# Altium schematic symbol library EDISON_ARDUINO_HVM_8_26_OLD_Library.SchLib: 65 symbols
Pins are listed as number, name and electrical type; pins without a type are passive.

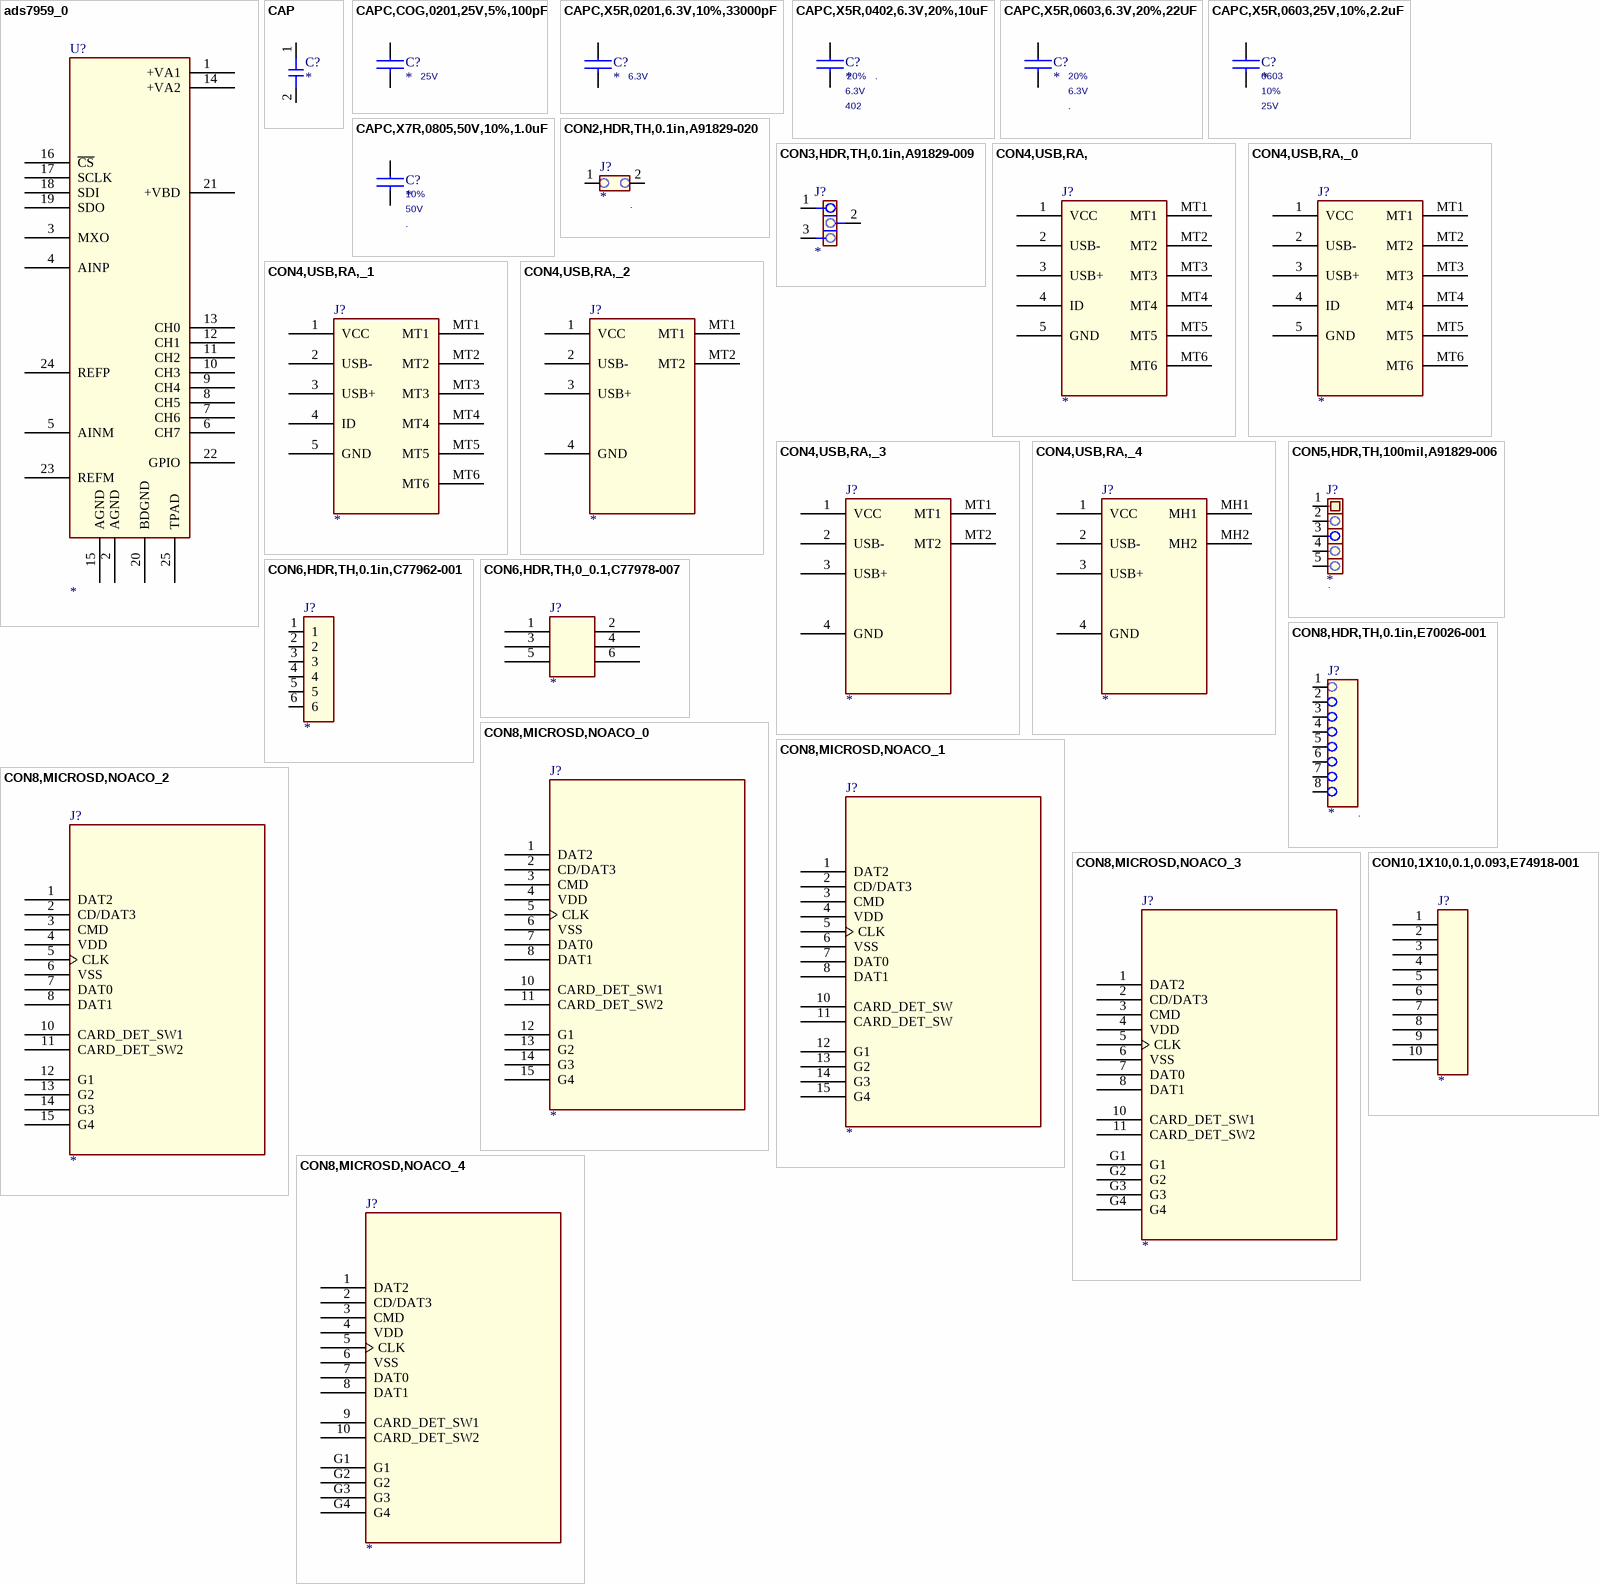
[diagram p0: symbols ads7959_0 to CON10,1X10,0.1,0.093,E74918-001]

## ads7959_0
designator U?
pins: 1 +VA1, 2 AGND (power), 3 MXO, 4 AINP, 5 AINM, 6 CH7, 7 CH6, 8 CH5, 9 CH4, 10 CH3, 11 CH2, 12 CH1, 13 CH0, 14 +VA2, 15 AGND (power), 16 ~{CS}, 17 SCLK, 18 SDI, 19 SDO, 20 BDGND (power), 21 +VBD, 22 GPIO, 23 REFM, 24 REFP, 25 TPAD

## CAP
designator C?
OriginalSymbolOrigin: (-50,50); VOLTAGE: ?; PERC: ?; PATH: ?; DESC: ?
pins: 1 END1, 2 END2

## CAPC,COG,0201,25V,5%,100pF
designator C?  RATING: 25V
PART_NUMBER: D70542-001; NO_STUFF: .; LEAD_FREE: YES; BOM: x; IPN: D70542-001; Device: D70542-001; FINANCE: x
footprint SMC0201
pins: 1, 2

## CAPC,X5R,0201,6.3V,10%,33000pF
designator C?  RATING: 6.3V
PART_NUMBER: C83410-017; LEAD_FREE: YES; BOM: x; NO_STUFF: .; IPN: C83410-017; Device: C83410-017; FINANCE: x
footprint SMC0201
pins: 1, 2

## CAPC,X5R,0402,6.3V,20%,10uF
designator C?  SIZE: 402  NO_STUFF: .  TOL: 20%  RATING: 6.3V
PART_NUMBER: G21049-001; LEAD_FREE: YES; BOM: x; Device: G21049-001; IPN: G21049-001; FINANCE: x
footprint SMC0402
pins: 1, 2

## CAPC,X5R,0603,6.3V,20%,22UF
designator C?  TOLERANCE: 20%  RATING: 6.3V  NO_STUFF: .
Device: 602433-081; LEAD_FREE: YES; BOM: x; IPN: 602433-081; PART_NUMBER: 602433-081; FINANCE: x
footprint SMC0603_hi_value
pins: 1, 2

## CAPC,X5R,0603,25V,10%,2.2uF
designator C?  TOL: 10%  SIZE: 0603  RATING: 25V
PART_NUMBER: 602433-091; FINANCE: x; LEAD_FREE: YES; NO_STUFF: .; BOM: x; DEVICE: 602433-091; IPN: 602433-091
footprint SMC0603_hi_value
pins: 1, 2

## CAPC,X7R,0805,50V,10%,1.0uF
designator C?  RATING: 50V  NO_STUFF: .  TOL: 10%
FINANCE: x; LEAD_FREE: YES; IPN: 644066-111; BOM: x; Device: 644066-111; PART_NUMBER: 644066-111
footprint SMC0805_1p35h
pins: 1, 2

## CON2,HDR,TH,0.1in,A91829-020
designator J?  NO_STUFF: .
PART_NUMBER: A91829-020; LEAD_FREE: YES; BOM: x; Device: A91829-020; IPN: A91829-020; FINANCE: x
footprint 102276-001
pins: 1, 2

## CON3,HDR,TH,0.1in,A91829-009
designator J?
IPN: A91829-009; LEAD_FREE: YES; BOM: x; NO_STUFF: .; Device: A91829-009; FINANCE: x
footprint 1x3hdr_p100in_th
pins: 1, 2, 3

## CON4,USB,RA,
designator J?
BOM: x; LEAD_FREE: YES; IPN: C88409-001; NO_STUFF: .; MFG: FOXCONN; MFG P/N: UB11123-5B1-4F; FINANCE: x; DEVICE: C88409-001; PART_NUMBER: C88409-001
footprint RCPT_USB_5P_DIP_SM
pins: 1 VCC, 2 USB-, 3 USB+, 4 ID, 5 GND, MT1, MT2, MT3, MT4, MT5, MT6

## CON4,USB,RA,_0
designator J?
PART_NUMBER: C88409-001; BOM: x; LEAD_FREE: YES; IPN: D23040-001; NO_STUFF: .; FINANCE: x; DEVICE: D23040-001
footprint RCPT_USB_5P_DIP_SM
pins: 1 VCC, 2 USB-, 3 USB+, 4 ID, 5 GND, MT1, MT2, MT3, MT4, MT5, MT6

## CON4,USB,RA,_1
designator J?
BOM: x; LEAD_FREE: YES; IPN: G58911-001; DEVICE: D23040-001; NO_STUFF: .; FINANCE: x; PART_NUMBER: G58911-001
footprint RCPT_USB_5P_DIP_SM
pins: 1 VCC, 2 USB-, 3 USB+, 4 ID, 5 GND, MT1, MT2, MT3, MT4, MT5, MT6

## CON4,USB,RA,_2
designator J?
PART_NUMBER: G58911-001; NO_STUFF: .; DEVICE: D23040-001; FINANCE: x; LEAD_FREE: YES; IPN: G58911-001; BOM: x
footprint RCPT_USB_5P_DIP_SM
pins: 1 VCC, 2 USB-, 3 USB+, 4 GND, MT1, MT2

## CON4,USB,RA,_3
designator J?
PART_NUMBER: G58911-001; NO_STUFF: .; DEVICE: D23040-001; FINANCE: x; LEAD_FREE: YES; IPN: G58911-001; BOM: x
footprint RCPT_USB_5P_DIP_SM
pins: 1 VCC, 2 USB-, 3 USB+, 4 GND, MT1, MT2

## CON4,USB,RA,_4
designator J?
BOM: x; LEAD_FREE: YES; IPN: G58911-001; DEVICE: D23040-001; NO_STUFF: .; FINANCE: x; PART_NUMBER: G58911-001
footprint RCPT_USB_5P_DIP_SM
pins: 1 VCC, 2 USB-, 3 USB+, 4 GND, MH1, MH2

## CON5,HDR,TH,100mil,A91829-006
designator J?  NO_STUFF: .
PART_NUMBER: A91829-006; FINANCE: x; LEAD_FREE: YES; BOM: x; IPN: A91829-006; Device: A91829-006
footprint 102276-005
pins: 1, 2, 3, 4, 5

## CON6,HDR,TH,0.1in,C77962-001
designator J?
NO_STUFF: .; RATING: 1Amax; DEVICE: C77962-001; LEAD_FREE: YES; BOM: x; ROOM: NO_ROOM; IPN: C77962-001; PART_NUMBER: C77962-001; FINANCE: x
footprint 109728-038
pins: 1, 2, 3, 4, 5, 6

## CON6,HDR,TH,0_0.1,C77978-007
designator J?
PART_NUMBER: C77978-007; FINANCE: x; LEAD_FREE: YES; NO_STUFF: .; BOM: x; IPN: C77978-007; Device: C77978-007
footprint HDR_2X3DP
pins: 1 IO_1, 2 IO_2, 3 IO_3, 4 IO_4, 5 IO_5, 6 IO_6

## CON8,HDR,TH,0.1in,E70026-001
designator J?  NO_STUFF: .
FINANCE: x; LEAD_FREE: YES; IPN: E70026-001; BOM: x; Device: E70026-001; PART_NUMBER: E70026-001
footprint 1x8hdr_p100in_th
pins: 1, 2, 3, 4, 5, 6, 7, 8

## CON8,MICROSD,NOACO_0
designator J?
PART_NUMBER: REQ3437; NO_STUFF: .; MFG P/N: 473092651; LEAD_FREE: YES; BOM: x; Device: REQ3437; IPN: REQ3437; FINANCE: x
footprint 1x8_p1p1mm_micro_sd
pins: 1 DAT2, 2 CD/DAT3, 3 CMD, 4 VDD, 5 CLK, 6 VSS, 7 DAT0, 8 DAT1, 10 CARD_DET_SW1, 11 CARD_DET_SW2, 12 G1, 13 G2, 14 G3, 15 G4

## CON8,MICROSD,NOACO_1
designator J?
PART_NUMBER: REQ3437; NO_STUFF: .; MFG P/N: 473092651; LEAD_FREE: YES; BOM: x; Device: REQ3437; IPN: REQ3437; FINANCE: x
footprint 1x8_p1p1mm_micro_sd
pins: 1 DAT2, 2 CD/DAT3, 3 CMD, 4 VDD, 5 CLK, 6 VSS, 7 DAT0, 8 DAT1, 10 CARD_DET_SW, 11 CARD_DET_SW, 12 G1, 13 G2, 14 G3, 15 G4

## CON8,MICROSD,NOACO_2
designator J?
PART_NUMBER: REQ3437; NO_STUFF: .; MFG P/N: 473092651; LEAD_FREE: YES; BOM: x; Device: REQ3437; IPN: REQ3437; FINANCE: x
footprint 1x8_p1p1mm_micro_sd
pins: 1 DAT2, 2 CD/DAT3, 3 CMD, 4 VDD, 5 CLK, 6 VSS, 7 DAT0, 8 DAT1, 10 CARD_DET_SW1, 11 CARD_DET_SW2, 12 G1, 13 G2, 14 G3, 15 G4

## CON8,MICROSD,NOACO_3
designator J?
PART_NUMBER: REQ3437; NO_STUFF: .; MFG P/N: 473092651; LEAD_FREE: YES; BOM: x; Device: REQ3437; IPN: REQ3437; FINANCE: x
footprint 1x8_p1p1mm_micro_sd
pins: 1 DAT2, 2 CD/DAT3, 3 CMD, 4 VDD, 5 CLK, 6 VSS, 7 DAT0, 8 DAT1, 10 CARD_DET_SW1, 11 CARD_DET_SW2, G1, G2, G3, G4

## CON8,MICROSD,NOACO_4
designator J?
PART_NUMBER: REQ3437; NO_STUFF: .; MFG P/N: 473092651; LEAD_FREE: YES; BOM: x; Device: REQ3437; IPN: REQ3437; FINANCE: x
footprint 1x8_p1p1mm_micro_sd
pins: 1 DAT2, 2 CD/DAT3, 3 CMD, 4 VDD, 5 CLK, 6 VSS, 7 DAT0, 8 DAT1, 9 CARD_DET_SW1, 10 CARD_DET_SW2, G1, G2, G3, G4

## CON10,1X10,0.1,0.093,E74918-001
designator J?
ROOM: NO_ROOM; NO_STUFF: .; LEAD_FREE: YES; IPN: E74918-001
footprint con10_1x10
pins: 1, 2, 3, 4, 5, 6, 7, 8, 9, 10

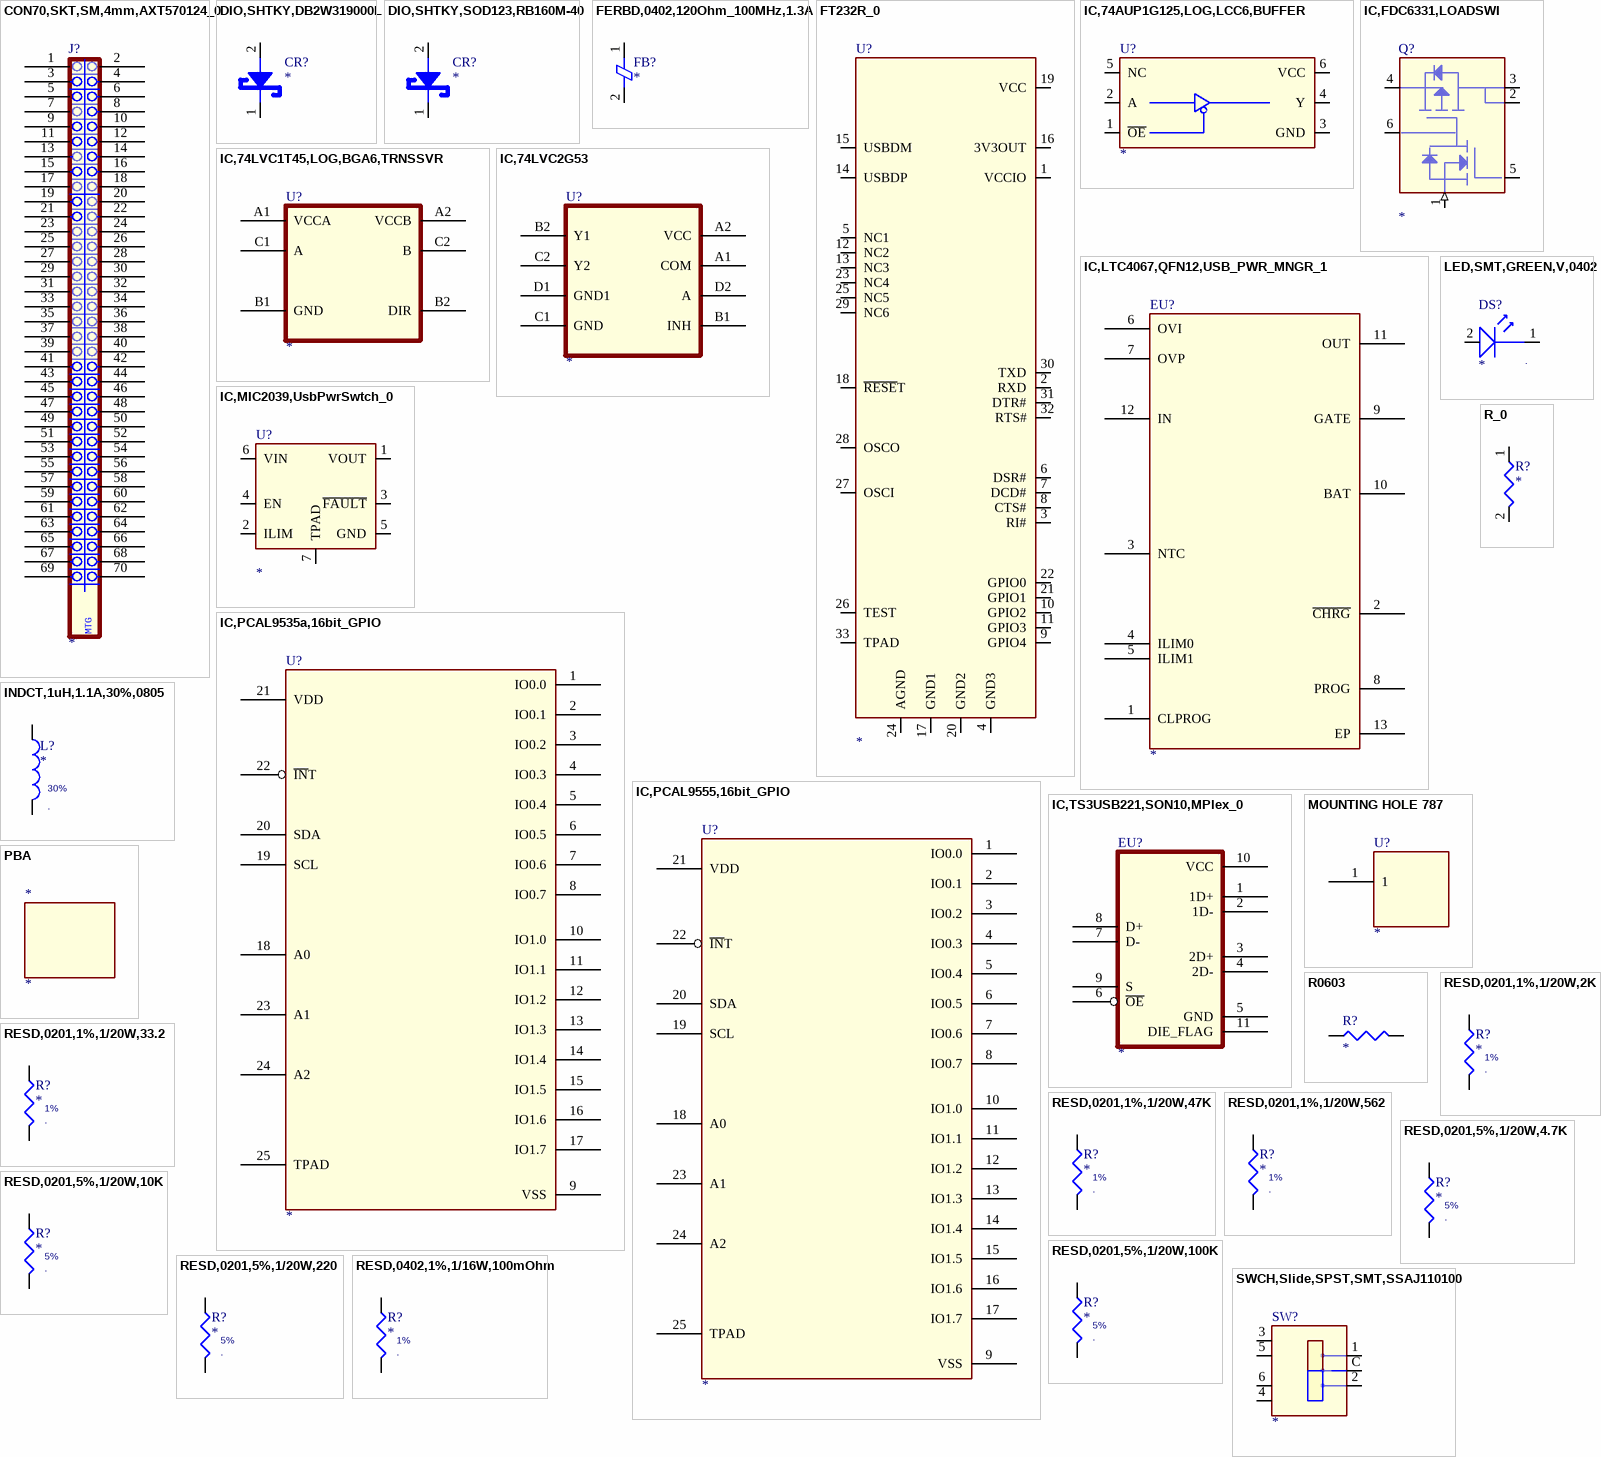
[diagram p1: symbols CON70,SKT,SM,4mm,AXT570124_0 to SWCH,Slide,SPST,SMT,SSAJ110100]

## CON70,SKT,SM,4mm,AXT570124_0
designator J?
PART_NUMBER: G94563-001; MFG P/N: AXT570124; ROOM: NO_ROOM; MFG: Panasonic; NO_STUFF: .; FINANCE: x; LEAD_FREE: YES; BOM: x; IPN: G94563-001; DEVICE: G94563-001
footprint 2x35_p4mm_btb_axt_skt
pins: 1, 2, 3, 4, 5, 6, 7, 8, 9, 10, 11, 12, 13, 14, 15, 16, 17, 18, 19, 20, 21, 22, 23, 24, 25, 26, 27, 28, 29, 30, 31, 32, 33, 34, 35, 36, 37, 38, 39, 40, 41, 42, 43, 44, 45, 46, 47, 48, 49, 50, 51, 52, 53, 54, 55, 56, 57, 58, 59, 60, 61, 62, 63, 64, 65, 66, 67, 68, 69, 70
text: MTG

## DIO,SHTKY,DB2W319000L
designator CR?
DIODE SHKY 1A 40V SOD123; PART NUMBER: H33384-001; Manufacturer P/N: DB2W319000L; Manufacturer: Pillips; Decsription: IC,DS,DIO,SMT,DB2W31900L,SHTKY,; FINANCE: x; LEAD_FREE: YES; NO_STUFF: .; IPN: H33384-001; Device: H33384-001; BOM: x; PART_NUMBER: H33384-001
footprint SCR_27X17MA
pins: 1 Cathode, 2 Anode

## DIO,SHTKY,SOD123,RB160M-40
designator CR?
DIODE SHKY 1A 40V SOD123; Manufacturer P/N: RM160M-40; Manufacturer: Pillips; FINANCE: x; LEAD_FREE: YES; IPN: E58800-001; NO_STUFF: .; Device: E58800-001; BOM: x; PART_NUMBER: E58800-001
footprint SOD123_67x106
pins: 1 Cathode, 2 Anode

## FERBD,0402,120Ohm_100MHz,1.3A
designator FB?
PART_NUMBER: A51464-017; FINANCE: x; LEAD_FREE: YES; BOM: x; IPN: A51464-017; Device: A51464-017
footprint SMF0402
pins: 1 FB1, 2 FB2

## FT232R_0
designator U?
pins: 1 VCCIO, 2 RXD, 3 RI#, 4 GND3, 5 NC1, 6 DSR#, 7 DCD#, 8 CTS#, 9 GPIO4, 10 GPIO2, 11 GPIO3, 12 NC2, 13 NC3, 14 USBDP, 15 USBDM, 16 3V3OUT, 17 GND1, 18 ~{RESE}T, 19 VCC, 20 GND2, 21 GPIO1, 22 GPIO0, 23 NC4, 24 AGND, 25 NC5, 26 TEST, 27 OSCI, 28 OSCO, 29 NC6, 30 TXD, 31 DTR#, 32 RTS#, 33 TPAD

## IC,74AUP1G125,LOG,LCC6,BUFFER
designator U?
ROOM: NO_ROOM; FINANCE: x; LEAD_FREE: YES; IPN: H22984-001; MFG: TI; MFG P/N: 74AUP1G125GF; NO_STUFF: .; BOM: x; DEVICE: H22984-001; PART_NUMBER: H22984-001
footprint LCC6_P35MM_SQ1P0_NONC_P5H
pins: 1 ~{OE}, 2 A, 3 GND, 4 Y, 5 NC, 6 VCC

## IC,74LVC1T45,LOG,BGA6,TRNSSVR
designator U?
FINANCE: x; LEAD_FREE: YES; IPN: G42189-001; NO_STUFF: .; MFG: TI; MFG P/N: 74LVC1T45YZPR; BOM: x; DEVICE: G42189-001; PART_NUMBER: G42189-001
footprint bga6_5mm_37x57
pins: A1 VCCA, A2 VCCB, B1 GND, B2 DIR, C1 A, C2 B

## IC,74LVC2G53
designator U?
PART_NUMBER: G42189-001; FINANCE: x; LEAD_FREE: YES; IPN: NEED; NO_STUFF: .; MFG: TI; MFG P/N: 74LVC2G53; BOM: x
footprint bga8_2X4_P5MM
pins: A1 COM, A2 VCC, B1 INH, B2 Y1, C1 GND, C2 Y2, D1 GND1, D2 A

## IC,FDC6331,LOADSWI
designator Q?
PART_NUMBER: NEW; NO_STUFF: .; LEAD_FREE: YES; BOM: x; IPN: NEW; Device: NEW; FINANCE: x
footprint SSOT-6
pins: 1 R2 (in), 2 VOUT2, 3 VOUT1, 4 VOUT, 5 ON, 6 R1C1

## IC,LTC4067,QFN12,USB_PWR_MNGR_1
designator EU?
IPN: G38734-001; NO_STUFF: .; LEAD_FREE: YES; BOM: x; DEVICE: G38734-001; PART_NUMBER: G38734-001; FINANCE: x
footprint lcc12_p5mm_3x4mm
pins: 1 CLPROG, 2 ~{CHRG}, 3 NTC, 4 ILIM0, 5 ILIM1, 6 OVI, 7 OVP, 8 PROG, 9 GATE, 10 BAT, 11 OUT, 12 IN, 13 EP

## IC,MIC2039,UsbPwrSwtch_0
designator U?
PART_NUMBER: NEW; MFG P/N: MIC2039EYMT; MFG: MICREL; FINANCE: x; LEAD_FREE: YES; NO_STUFF: .; IPN: G11660-001; ROOM: NO_ROOM; BOM: x
footprint DFN_6P_2X2MM
pins: 1 VOUT, 2 ILIM, 3 ~{FAULT}, 4 EN, 5 GND, 6 VIN, 7 TPAD

## IC,PCAL9535a,16bit_GPIO
designator U?
Part_Number: H47895-001; FINANCE: x; LEAD_FREE: YES; NO_STUFF: .; BOM: x; IPN: h47895-001; DEVICE: H47895-001
footprint LCC25_S41_5DF89X89MA
pins: 1 IO0.0, 2 IO0.1, 3 IO0.2, 4 IO0.3, 5 IO0.4, 6 IO0.5, 7 IO0.6, 8 IO0.7, 9 VSS, 10 IO1.0, 11 IO1.1, 12 IO1.2, 13 IO1.3, 14 IO1.4, 15 IO1.5, 16 IO1.6, 17 IO1.7, 18 A0, 19 SCL, 20 SDA, 21 VDD, 22 ~{IN}T, 23 A1, 24 A2, 25 TPAD

## IC,PCAL9555,16bit_GPIO
designator U?
NO_STUFF: .; DEVICE: C90179-001; LEAD_FREE: YES; BOM: x; IPN: C90179-001; Part_Number: C90179-001; FINANCE: x
footprint LCC25_S41_5DF89X89MA
pins: 1 IO0.0, 2 IO0.1, 3 IO0.2, 4 IO0.3, 5 IO0.4, 6 IO0.5, 7 IO0.6, 8 IO0.7, 9 VSS, 10 IO1.0, 11 IO1.1, 12 IO1.2, 13 IO1.3, 14 IO1.4, 15 IO1.5, 16 IO1.6, 17 IO1.7, 18 A0, 19 SCL, 20 SDA, 21 VDD, 22 ~{IN}T, 23 A1, 24 A2, 25 TPAD

## IC,TS3USB221,SON10,MPlex_0
designator EU?
PART_NUMBER: G67765-001; NO_STUFF: .; LEAD_FREE: YES; BOM: x; ROOM: NO_ROOM; DEVICE: G67765-001; IPN: G67765-001; FINANCE: x
footprint LCC10_P5MM_EP65X94
pins: 1 1D+, 2 1D-, 3 2D+, 4 2D-, 5 GND, 6 ~{OE}, 7 D-, 8 D+, 9 S, 10 VCC, 11 DIE_FLAG

## INDCT,1uH,1.1A,30%,0805
designator L?  NO_STUFF: .  TOL: 30%
MANUFACTURER P/N: MIPSZ2012D1R0; FINANCE: x; LEAD_FREE: YES; IPN: G95926-001; ROOM: NO_ROOM; MFG: Murata; BOM: x; Device: G95926-001; PART_NUMBER: G95926-001
footprint SML0805
pins: 1, 2

## LED,SMT,GREEN,V,0402
designator DS?  NO_STUFF: .
Device: E78328-001; LEAD_FREE: YES; BOM: x; IPN: E78328-001; PART_NUMBER: E78328-001; FINANCE: x
footprint smled0402
pins: 1 LED1, 2 LED2

## MOUNTING HOLE 787
designator U?
footprint NPIN787
pins: 1

## PBA
designator *

## R0603
designator R?
footprint RC0603
pins: 1, 2

## R_0
designator R?
footprint 0603.PRT
pins: 1, 2

## RESD,0201,1%,1/20W,2K
designator R?  TOL: 1%  NO_STUFF: .
PART_NUMBER: C48657-013; FINANCE: x; LEAD_FREE: YES; RATING: 1/20W; BOM: x; IPN: C48657-013; Device: C48657-013
footprint SMR0201
pins: 1, 2

## RESD,0201,1%,1/20W,33.2
designator R?  NO_STUFF: .  TOL: 1%
Device: C48657-043; RATING: 1/20W; LEAD_FREE: YES; BOM: x; IPN: C48657-043; PART_NUMBER: C48657-043; FINANCE: x
footprint SMR0201
pins: 1, 2

## RESD,0201,1%,1/20W,47K
designator R?  TOL: 1%  NO_STUFF: .
PART_NUMBER: C48657-118; FINANCE: x; LEAD_FREE: YES; RATING: 1/20W; BOM: x; IPN: C48657-118; Device: C48657-118
footprint SMR0201
pins: 1, 2

## RESD,0201,1%,1/20W,562
designator R?  NO_STUFF: .  TOL: 1%
Device: C48657-178; RATING: 1/20W; LEAD_FREE: YES; BOM: x; IPN: C48657-178; PART_NUMBER: C48657-178; FINANCE: x
footprint SMR0201
pins: 1, 2

## RESD,0201,5%,1/20W,4.7K
designator R?  NO_STUFF: .  TOL: 5%
Device: C80792-014; RATING: 1/20W; LEAD_FREE: YES; BOM: x; IPN: C80792-014; PART_NUMBER: C80792-014; FINANCE: x
footprint SMR0201
pins: 1, 2

## RESD,0201,5%,1/20W,10K
designator R?  NO_STUFF: .  TOL: 5%
Device: C80792-002; RATING: 1/20W; LEAD_FREE: YES; BOM: x; IPN: C80792-002; PART_NUMBER: C80792-002; FINANCE: x
footprint SMR0201
pins: 1, 2

## RESD,0201,5%,1/20W,100K
designator R?  NO_STUFF: .  TOL: 5%
Device: C80792-011; RATING: 1/20W; LEAD_FREE: YES; BOM: x; IPN: C80792-011; PART_NUMBER: C80792-011; FINANCE: x
footprint SMR0201
pins: 1, 2

## RESD,0201,5%,1/20W,220
designator R?  NO_STUFF: .  TOL: 5%
Device: C80792-046; RATING: 1/20W; LEAD_FREE: YES; BOM: x; IPN: C80792-046; PART_NUMBER: C80792-046; FINANCE: x
footprint SMR0201
pins: 1, 2

## RESD,0402,1%,1/16W,100mOhm
designator R?  TOL: 1%  NO_STUFF: .
PART_NUMBER: E84555-001; RATING: 1/16W; LEAD_FREE: YES; BOM: x; IPN: E84555-001; Device: E84555-001; FINANCE: x
footprint SMR0402
pins: 1, 2

## SWCH,Slide,SPST,SMT,SSAJ110100
designator SW?
Slide switch,SSAJ110100; Part_Number: G99612-001; MFR: ALPS; FINANCE: x; LEAD_FREE: YES; ROOM: NO_ROOM; BOM: x; Device: G99612-001; IPN: G99612-001; MFR P/N: SSAJ110100
footprint sw_ssaj110100_3p
pins: 1, 2, 3 MT_1, 4 MT_2, 5 MT_3, 6 MT_4, C

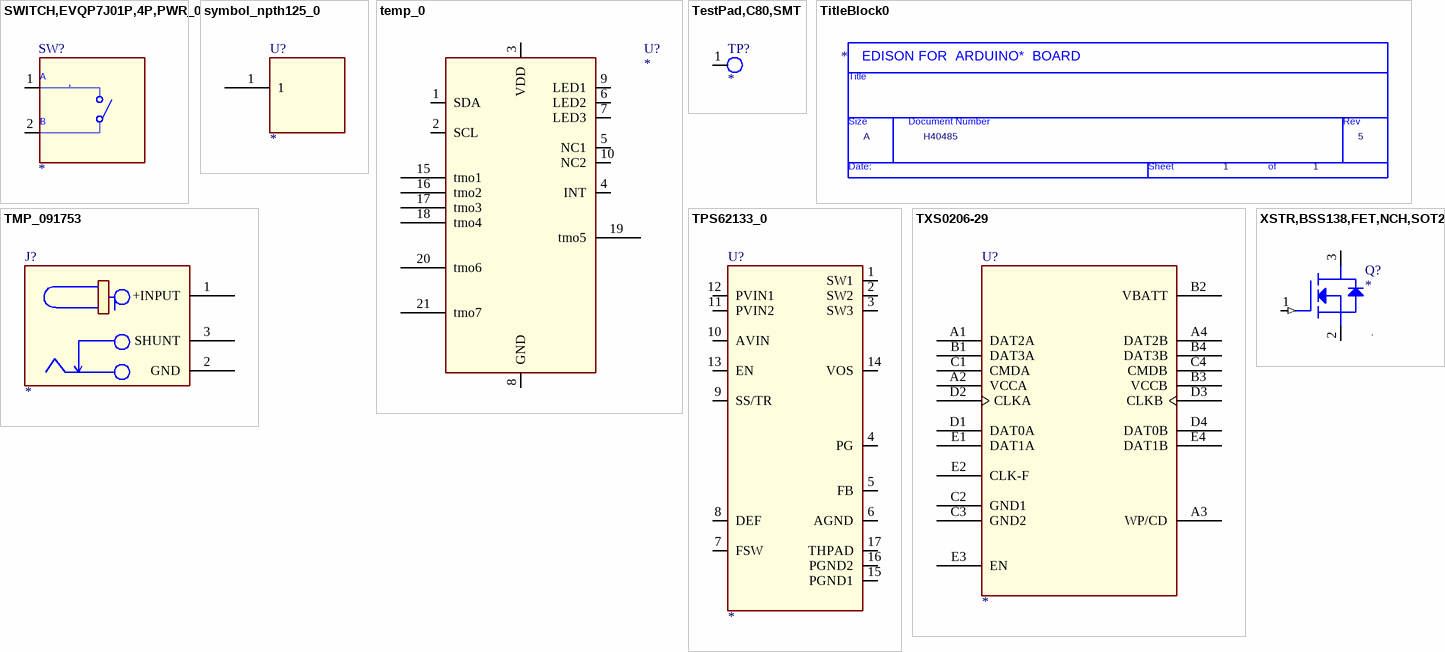
[diagram p2: symbols SWITCH,EVQP7J01P,4P,PWR_0 to XSTR,BSS138,FET,NCH,SOT23]

## SWITCH,EVQP7J01P,4P,PWR_0
designator SW?
PART_NUMBER: G83720-001; MFG P/N: EVQP7J01P; MFG: Panasonic; BOM: x; ROOM: NO_ROOM; NO_STUFF: .; LEAD_FREE: YES; IPN: G83720-001; FINANCE: x; DEVICE: G83720-001
footprint sw_evqp7_4p
pins: 1 A (io), 2 B (io)

## symbol_npth125_0
designator U?
footprint SYMBOL_NPTH125
pins: 1

## temp_0
designator U?
IC,SENSOR, OPTICAL, QFN10; MPN: CP2541-A11-GMR; PART_NUMBER: NEED TO PULL
footprint QFN10_2x2
pins: 1 SDA, 2 SCL, 3 VDD, 4 INT, 5 NC1, 6 LED2, 7 LED3, 8 GND, 9 LED1, 10 NC2, 15 tmo1, 16 tmo2, 17 tmo3, 18 tmo4, 19 tmo5, 20 tmo6, 21 tmo7

## TestPad,C80,SMT
designator TP?
LEAD_FREE: NO; FINANCE: x; IPN: TESTPAD_80; DEVICE: TESTPAD_80; BOM: x; PART_NUMBER: TESTPAD_80; NO_STUFF: NO_STUFF
footprint TESTPAD_C80
pins: 1

## TitleBlock0
designator *  Page Count: 1  Page Size: A  RevCode: 5  Doc: H40485  (graphical)
Page Number: 1; Page Create Date: March  8, 1995
text: EDISON FOR  ARDUINO*  BOARD; Title; Size; Document Number; Rev; Date:; Sheet; of

## TMP_091753
designator J?
MFR P/N: PJ-014D; MFR: CUI INC; PART_NUMBER: D32311-001; FINANCE: x; LEAD_FREE: YES; NO_STUFF: .; BOM: x; Device: D32311-001; IPN: D32311-001
footprint JK_3P_RA
pins: 1 +INPUT, 2 GND, 3 SHUNT

## TPS62133_0
designator U?
footprint QFN16_3X3
pins: 1 SW1, 2 SW2, 3 SW3, 4 PG, 5 FB, 6 AGND, 7 FSW, 8 DEF, 9 SS/TR, 10 AVIN, 11 PVIN2, 12 PVIN1, 13 EN, 14 VOS, 15 PGND1, 16 PGND2, 17 THPAD

## TXS0206-29
designator U?
FINANCE: x; LEAD_FREE: YES; IPN: NEW; NO_STUFF: .; MFG PN: TXS0206-29YFPR; BOM: x; Device: NEW; PART_NUMBER: NEW
footprint WCSP20
pins: A1 DAT2A, A2 VCCA, A3 WP/CD, A4 DAT2B, B1 DAT3A, B2 VBATT, B3 VCCB, B4 DAT3B, C1 CMDA, C2 GND1, C3 GND2, C4 CMDB, D1 DAT0A, D2 CLKA, D3 CLKB, D4 DAT0B, E1 DAT1A, E2 CLK-F, E3 EN, E4 DAT1B

## XSTR,BSS138,FET,NCH,SOT23
designator Q?  NO_STUFF: .
FINANCE: x; LEAD_FREE: YES; Device: C81974-001; BOM: x; IPN: C81974-001; PART_NUMBER: C81974-001
footprint SOT23
pins: 1 G (in), 2 S, 3 D